# Altium footprint library Movandi_11.PcbLib: 8 footprints
Each footprint in its own frame and in the unit in brackets; x right, y up, seen from the top. Pads: shape width x height; smd on the part's side, far side on the other; paste and mask are expansions set on the pad; w line width, h text height; cw(c..) or ccw(c..) is an arc to the next point about the centre after c.
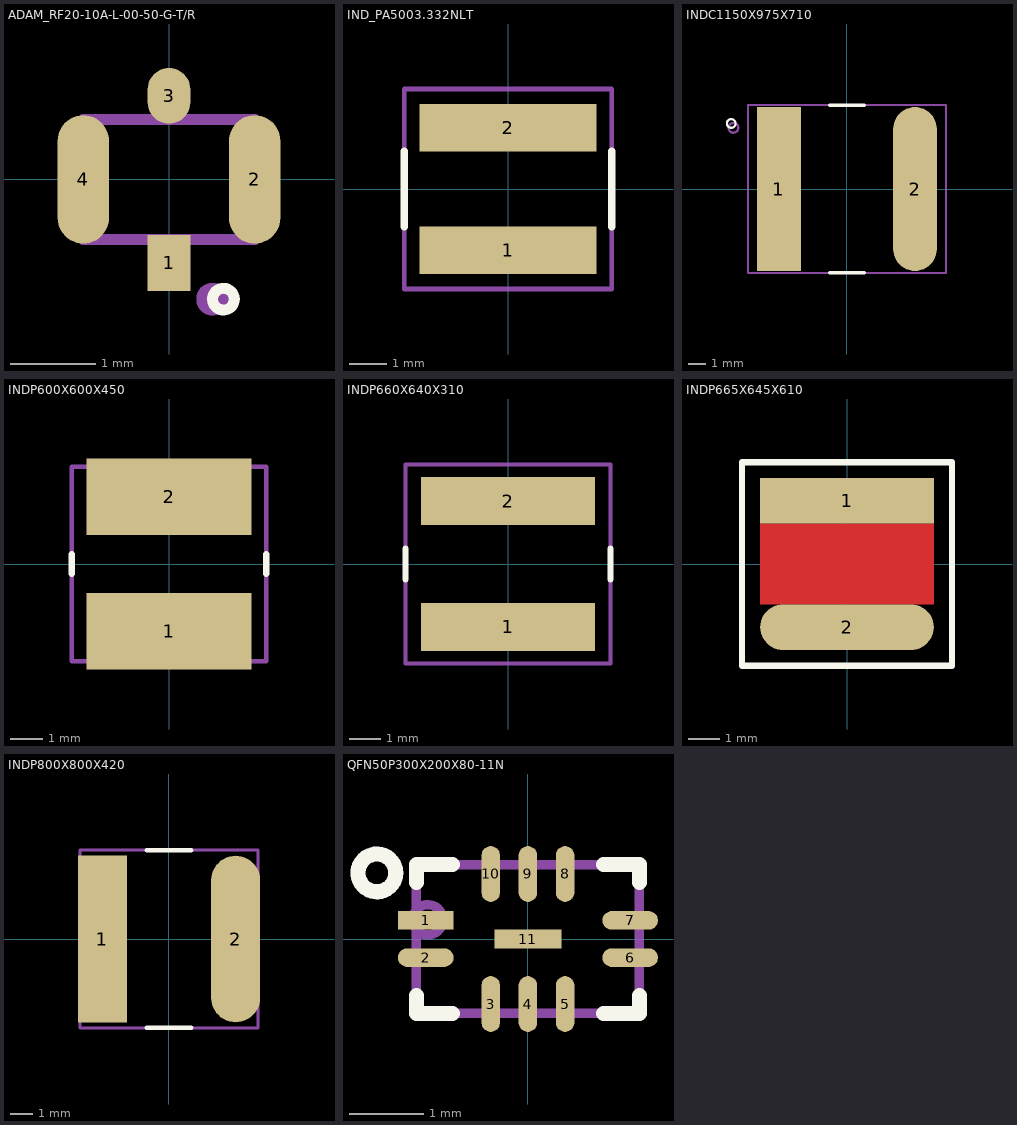
[diagram p0: the footprints below, top view; thin cyan lines are the x and y axes]

## ADAM_RF20-10A-L-00-50-G-T/R [mm]
height 0.6
pads (4):
  rect 0.5x0.65 smd mask+0.051: 1(0,-0.975)
  oval 0.6x1.5 smd mask+0.051: 2(1,0) 4(-1,0)
  oval 0.5x0.65 smd mask+0.051: 3(0,0.975)
Top Overlay:
  circle w0.127: c0.635,-1.397 r0.127
Outline:
  text ".Designator" at 0,0 h1.52
Courtyard Top:
  circle w0.127: c0.508,-1.397 r0.127
  lines w0.127: -1,-0.7 1,-0.7 1,0.7 -1,0.7 -1,-0.7
3D body: height 0.6, standoff 0, extent -1,-0.7 1,0.7

## IND_PA5003.332NLT [mm]
height 3.1
pads (2):
  rect 4.7x1.25 smd mask+0.051: 1(0,-1.625) 2(0,1.625)
Top Overlay:
  lines w0.203: -2.75,-1 -2.75,1 ; 2.75,-1 2.75,1
Outline:
  text ".Designator" at 0,0 h1.52
Courtyard Top:
  lines w0.127: -2.75,-2.65 -2.75,2.65 2.75,2.65 2.75,-2.65 -2.75,-2.65
3D body: height 3.1, standoff 0, extent -2.75,-2.65 2.75,2.65

## INDC1150X975X710 [mm]
height 7.1
pads (2):
  rect 2.54x9.53 smd mask+0.051: 1(-3.955,0)
  oval 2.54x9.53 smd mask+0.051: 2(3.955,0)
Top Overlay:
  circle w0.127: c-6.731,3.81 r0.254
  lines w0.203: -1,-4.875 1,-4.875 ; -1,4.875 1,4.875
Outline:
  text ".Designator" at 0,0 h1.52
Courtyard Top:
  circle w0.127: c-6.604,3.556 r0.284
  lines w0.127: -5.75,-4.875 -5.75,4.875 5.75,4.875 5.75,-4.875 -5.75,-4.875
3D body: height 7.1, standoff 0, extent -5.75,-4.875 5.75,4.877

## INDP600X600X450 [mm]
height 4.5
pads (2):
  rect 5.1x2.35 smd mask+0.051: 1(0,-2.075) 2(0,2.075)
Top Overlay:
  lines w0.203: -3,-0.3 -3,0.3 ; 3,-0.3 3,0.3
Outline:
  text ".Designator" at 0,0 h1.52
Courtyard Top:
  lines w0.127: -3,-3 3,-3 3,3 -3,3 -3,-3
3D body: height 4.5, standoff 0, extent -3,-3 3,3

## INDP660X640X310 [mm]
height 3.1
pads (2):
  rect 5.6x1.55 smd mask+0.051: 1(0,-2.025) 2(0,2.025)
Top Overlay:
  lines w0.203: -3.3,-0.5 -3.3,0.5 ; 3.3,-0.5 3.3,0.5
Outline:
  text ".Designator" at 0,0 h1.52
Courtyard Top:
  lines w0.127: -3.3,-3.2 -3.3,3.2 3.3,3.2 3.3,-3.2 -3.3,-3.2
3D body: height 3.1, standoff 0, extent -3.3,-3.2 3.3,3.2

## INDP665X645X610 [mm]
height 6.1
pads (2):
  rect 5.5x1.45 smd mask+0.051: 1(0,2)
  oval 5.5x1.45 smd mask+0.051: 2(0,-2)
Top Layer:
  pour cut-out: 2.75,1.275 -2.75,1.275 -2.75,-1.275 2.75,-1.275
Top Overlay:
  lines w0.203: -3.325,-3.225 3.325,-3.225 3.325,3.225 -3.325,3.225 -3.325,-3.225
Outline:
  text ".Designator" at 0,0 h1.52
Courtyard Top:
  lines w0.127: -3.325,-3.225 3.325,-3.225 3.325,3.225 -3.325,3.225 -3.325,-3.225
3D body: height 6.1, standoff 0.9, extent -3.325,-3.225 3.325,3.225

## INDP800X800X420 [mm]
height 4.2
pads (2):
  rect 2.2x7.5 smd mask+0.051: 1(-3,0)
  oval 2.2x7.5 smd mask+0.051: 2(3,0)
Top Overlay:
  lines w0.203: -1,-4 1,-4 ; -1,4 1,4
Outline:
  text ".Designator" at 0,0 h1.52
Courtyard Top:
  lines w0.127: -4,-4 4,-4 4,4 -4,4 -4,-4
3D body: height 4.2, standoff 0, extent -4,-4 4,4

## QFN50P300X200X80-11N [mm]
height 0.8
pads (11):
  rect 0.75x0.25 smd: 1(-1.375,0.25)
  oval 0.75x0.25 smd: 2(-1.375,-0.25) 6(1.375,-0.25) 7(1.375,0.25)
  oval 0.25x0.75 smd: 3(-0.5,-0.875) 4(0,-0.875) 5(0.5,-0.875) 8(0.5,0.875) 9(0,0.875) 10(-0.5,0.875)
  rect 0.9x0.25 smd: 11(0,0)
Top Overlay:
  circle w0.203: c-2.032,0.889 r0.254
  lines w0.203: -1.5,-0.762 -1.5,-1 -1.016,-1 ; -1.5,0.762 -1.5,1 -1.016,1 ; 1.016,-1 1.5,-1 1.5,-0.762 ; 1.016,1 1.5,1 1.5,0.762
Outline:
  text "'.Designator'" at 0,0 h1.52
Courtyard Top:
  circle w0.127: c-1.348,0.259 r0.203
  lines w0.127: -1.5,-1 -1.5,1 1.5,1 1.5,-1 -1.5,-1
3D body: height 0.8, standoff 0, extent -1.5,-1 1.5,1